# EAGLE library part RM-NOISE-V1.0 (library XM8)
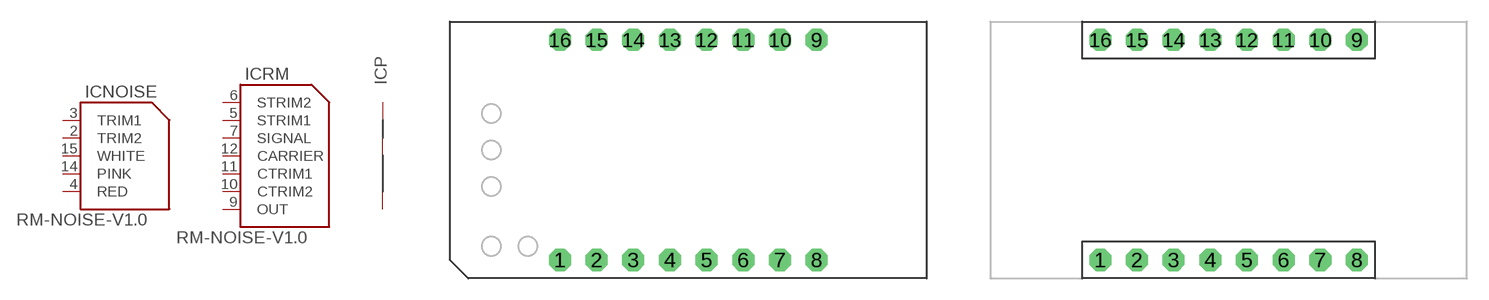
[diagram p28: symbol with the pads of XM8-RM-NOISE-V1.0; footprints XM8-RM-NOISE-V1.0, XM8-RM-NOISE-V1.0N]

Designator prefix IC; gates RM=XM8-RING-MOD-V2.0 NOISE=XM8-NOISE-V2.1 P=XM8-PWR

## RM-NOISE-V1.0  [XM8-RM-NOISE-V1.0]
1  P:-V  pwr
2  NOISE:TRIM2
3  NOISE:TRIM1
4  NOISE:RED
5  RM:STRIM1
6  RM:STRIM2
7  RM:SIGNAL
9  RM:OUT
10  RM:CTRIM2
11  RM:CTRIM1
12  RM:CARRIER
13  P:AGND  pwr
14  NOISE:PINK
15  NOISE:WHITE
16  P:+V  pwr

## RM-NOISE-V1.0N  [XM8-RM-NOISE-V1.0N]
Pads as for XM8-RM-NOISE-V1.0

## Footprint XM8-RM-NOISE-V1.0 (pad centres in mm)
Combined ring modulator and noise module
drill 1.016 octagon: 1 -8.89,-7.62; 2 -6.35,-7.62; 3 -3.81,-7.62; 4 -1.27,-7.62; 5 1.27,-7.62; 6 3.81,-7.62; 7 6.35,-7.62; 8 8.89,-7.62; 9 8.89,7.62; 10 6.35,7.62; 11 3.81,7.62; 12 1.27,7.62; 13 -1.27,7.62; 14 -3.81,7.62; 15 -6.35,7.62; 16 -8.89,7.62

## Footprint XM8-RM-NOISE-V1.0N (pad centres in mm)
Combined ring modulator and noise module
drill 1.016 octagon: 1 -8.89,-7.62; 2 -6.35,-7.62; 3 -3.81,-7.62; 4 -1.27,-7.62; 5 1.27,-7.62; 6 3.81,-7.62; 7 6.35,-7.62; 8 8.89,-7.62; 9 8.89,7.62; 10 6.35,7.62; 11 3.81,7.62; 12 1.27,7.62; 13 -1.27,7.62; 14 -3.81,7.62; 15 -6.35,7.62; 16 -8.89,7.62